# Altium schematic symbol library LTC1982ES6#TRMPBF.SchLib: 1 symbol
Pins are listed as number, name and electrical type; pins without a type are passive.

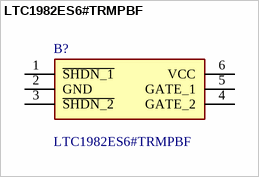
[diagram p0: symbol LTC1982ES6#TRMPBF]

## LTC1982ES6#TRMPBF
designator B?
Linear Technology LTC1982ES6#TRMPBF, Dual Isolated Gate Driver,, 1.8  5 V, High Side, 6-Pin SOT-23; Manufacturer_Name: Analog Devices; Geometry.Height: 1.45mm; Mouser Part Number: 584-LTC1982ES6TRMPBF; Mouser Price/Stock: https://www.mouser.co.uk/ProductDetail/Analog-Devices-Linear-Technology/LTC1982ES6TRMPBF?qs=hVkxg5c3xu8mWM6qoWHQmQ%3D%3D; Manufacturer_Part_Number: LTC1982ES6#TRMPBF; Datasheet Link: *
footprint SOT95P280X145-6N
pins: 1 ~{SHDN_1}, 2 GND, 3 ~{SHDN_2}, 4 GATE_2, 5 GATE_1, 6 VCC